# Altium footprint library seven_segment_2p3.PcbLib: 1 footprints
Each footprint in its own frame and in the unit in brackets; x right, y up, seen from the top. Pads: shape width x height; smd on the part's side, far side on the other; paste and mask are expansions set on the pad; w line width, h text height; cw(c..) or ccw(c..) is an arc to the next point about the centre after c.
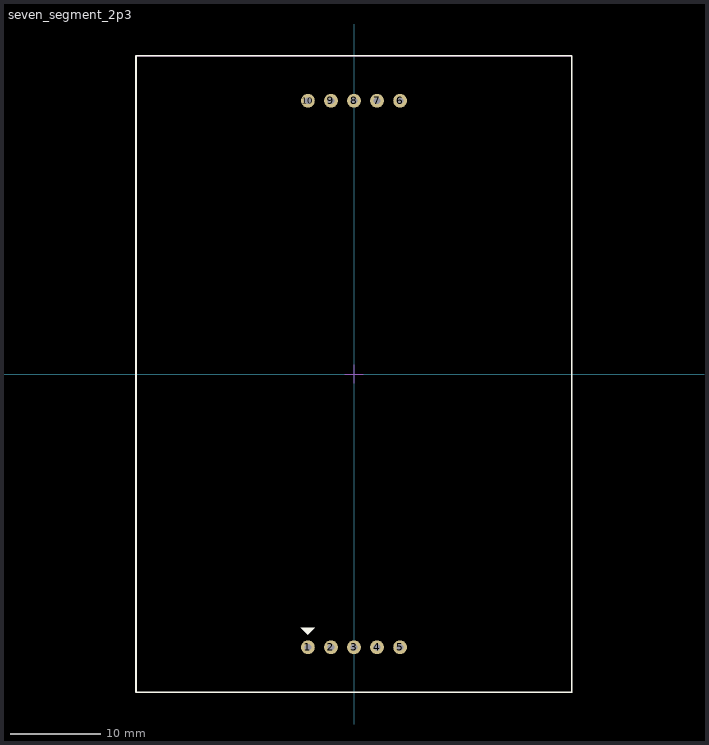
[diagram p0: the footprint, top view; thin cyan lines are the x and y axes]

## seven_segment_2p3 [mil]
pads (10):
  round 60 hole 30: 1(-200,-1185.04) 2(-100,-1185.04) 3(0,-1185.04) 4(100,-1185.04) 5(200,-1185.04) 6(200,1185.04) 7(100,1185.04) 8(0,1185.04) 9(-100,1185.04) 10(-200,1185.04)
Top Overlay:
  region: -200,-1130 -170,-1100 -230,-1100
  lines w7.87: 944.16,1380 -945,1380 -945,-1380 944.16,-1380 944.78,-1379.38 944.78,1379.38
Mechanical 15:
  lines w1.97: -40,0 40,0 ; 0,-40 0,40 ; -945,-1380 945,-1380 945,1380 -945,1380 -945,-1380
3D body "XDxx57.step": height 472, standoff -157.92, extent -944.88,-1377.95 944.88,1377.95